# EAGLE library part EC20CEFASG-MINIPCIE (library my-Quectel)
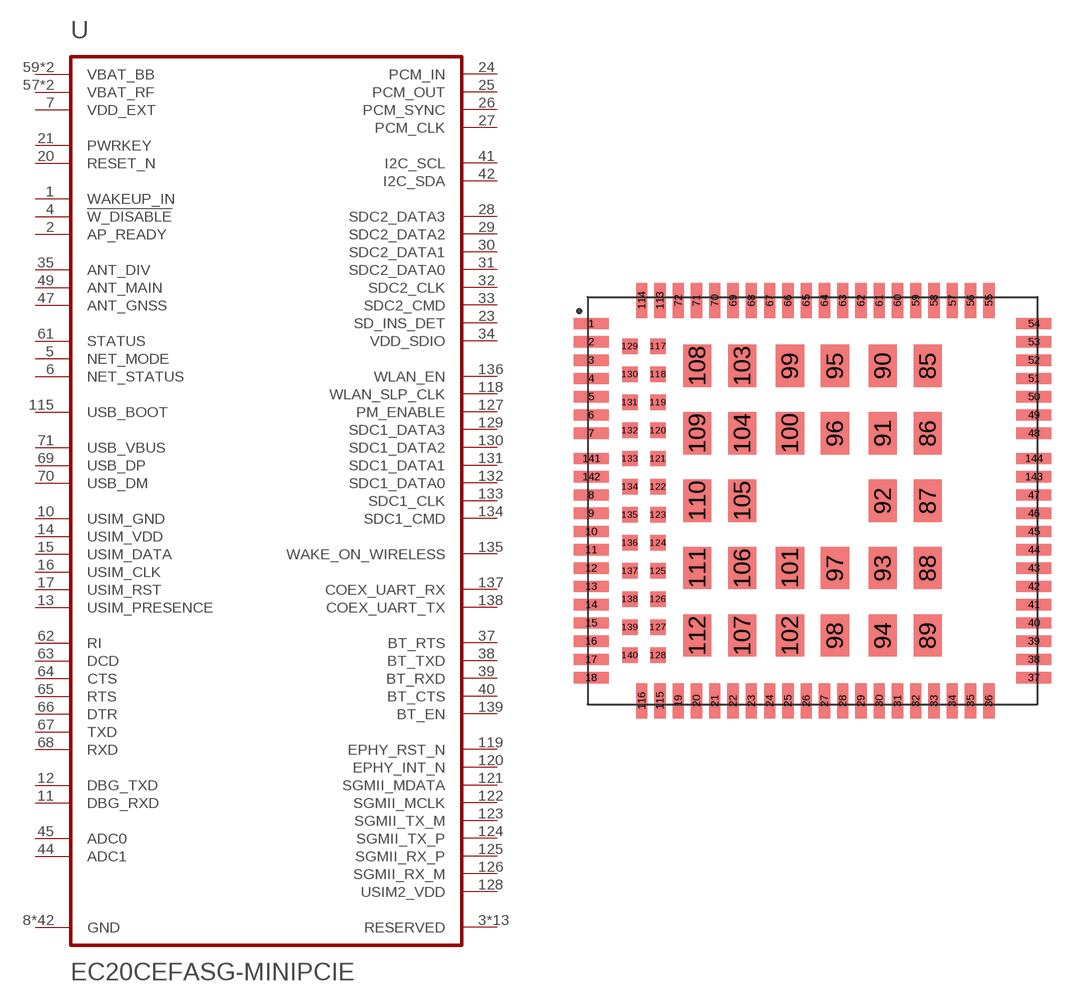
[diagram p0: symbol with the pads of EC21; footprint EC21]

Designator prefix -

## EC20CEFASG-MINIPCIE  [EC21]
1  WAKEUP_IN
2  AP_READY
3  RESERVED
4  !W_DISABLE
5  NET_MODE
6  NET_STATUS
7  VDD_EXT
8  GND
9  GND
10  USIM_GND
11  DBG_RXD
12  DBG_TXD
13  USIM_PRESENCE
14  USIM_VDD
15  USIM_DATA
16  USIM_CLK
17  USIM_RST
18  RESERVED
19  GND
20  RESET_N
21  PWRKEY
22  GND
23  SD_INS_DET
24  PCM_IN
25  PCM_OUT
26  PCM_SYNC
27  PCM_CLK
28  SDC2_DATA3
29  SDC2_DATA2
30  SDC2_DATA1
31  SDC2_DATA0
32  SDC2_CLK
33  SDC2_CMD
34  VDD_SDIO
35  ANT_DIV
36  GND
37  BT_RTS
38  BT_TXD
39  BT_RXD
40  BT_CTS
41  I2C_SCL
42  I2C_SDA
43  RESERVED
44  ADC1
45  ADC0
46  GND
47  ANT_GNSS
48  GND
49  ANT_MAIN
50  GND
51  GND
52  GND
53  GND
54  GND
55  RESERVED
56  GND
57  VBAT_RF
58  VBAT_RF
59  VBAT_BB
60  VBAT_BB
61  STATUS
62  RI
63  DCD
64  CTS
65  RTS
66  DTR
67  TXD
68  RXD
69  USB_DP
70  USB_DM
71  USB_VBUS
72  GND
85  GND
86  GND
87  GND
88  GND
89  GND
90  GND
91  GND
92  GND
93  GND
94  GND
95  GND
96  GND
97  GND
98  GND
99  GND
100  GND
101  GND
102  GND
103  GND
104  GND
105  GND
106  GND
107  GND
108  GND
109  GND
110  GND
111  GND
112  GND
113  RESERVED
114  RESERVED
115  USB_BOOT
116  RESERVED
117  RESERVED
118  WLAN_SLP_CLK
119  EPHY_RST_N
120  EPHY_INT_N
121  SGMII_MDATA
122  SGMII_MCLK
123  SGMII_TX_M
124  SGMII_TX_P
125  SGMII_RX_P
126  SGMII_RX_M
127  PM_ENABLE
128  USIM2_VDD
129  SDC1_DATA3
130  SDC1_DATA2
131  SDC1_DATA1
132  SDC1_DATA0
133  SDC1_CLK
134  SDC1_CMD
135  WAKE_ON_WIRELESS
136  WLAN_EN
137  COEX_UART_RX
138  COEX_UART_TX
139  BT_EN
140  RESERVED
141  RESERVED
142  RESERVED
143  RESERVED
144  RESERVED

## Footprint EC21 (pad centres in mm)
smd 2.5 x 0.8: 1 -15.75,12.6; 2 -15.75,11.3; 3 -15.75,10; 4 -15.75,8.7; 5 -15.75,7.4; 6 -15.75,6.1; 7 -15.75,4.8; 8 -15.75,0.4; 9 -15.75,-0.9; 10 -15.75,-2.2; 11 -15.75,-3.5; 12 -15.75,-4.8; 13 -15.75,-6.1; 14 -15.75,-7.4; 15 -15.75,-8.7; 16 -15.75,-10; 17 -15.75,-11.3; 18 -15.75,-12.6; 37 15.75,-12.6; 38 15.75,-11.3; 39 15.75,-10; 40 15.75,-8.7; 41 15.75,-7.4; 42 15.75,-6.1; 43 15.75,-4.8; 44 15.75,-3.5; 45 15.75,-2.2; 46 15.75,-0.9; 47 15.75,0.4; 48 15.75,4.8; 49 15.75,6.1; 50 15.75,7.4; 51 15.75,8.7; 52 15.75,10; 53 15.75,11.3; 54 15.75,12.6; 141 -15.75,3; 142 -15.75,1.7; 143 15.75,1.7; 144 15.75,3
smd 0.8 x 2.5: 19 -9.55,-14.25; 20 -8.25,-14.25; 21 -6.95,-14.25; 22 -5.65,-14.25; 23 -4.35,-14.25; 24 -3.05,-14.25; 25 -1.75,-14.25; 26 -0.45,-14.25; 27 0.85,-14.25; 28 2.15,-14.25; 29 3.45,-14.25; 30 4.75,-14.25; 31 6.05,-14.25; 32 7.35,-14.25; 33 8.65,-14.25; 34 9.95,-14.25; 35 11.25,-14.25; 36 12.55,-14.25; 55 12.55,14.25; 56 11.25,14.25; 57 9.95,14.25; 58 8.65,14.25; 59 7.35,14.25; 60 6.05,14.25; 61 4.75,14.25; 62 3.45,14.25; 63 2.15,14.25; 64 0.85,14.25; 65 -0.45,14.25; 66 -1.75,14.25; 67 -3.05,14.25; 68 -4.35,14.25; 69 -5.65,14.25; 70 -6.95,14.25; 71 -8.25,14.25; 72 -9.55,14.25; 113 -10.85,14.25; 114 -12.15,14.25; 115 -10.85,-14.25; 116 -12.15,-14.25
smd 2 x 3: 85 8.2,9.6; 86 8.2,4.8; 87 8.2,0; 88 8.2,-4.8; 89 8.2,-9.6; 90 5,9.6; 91 5,4.8; 92 5,0; 93 5,-4.8; 94 5,-9.6; 95 1.6,9.6; 96 1.6,4.8; 97 1.6,-4.8; 98 1.6,-9.6; 99 -1.6,9.6; 100 -1.6,4.8; 101 -1.6,-4.8; 102 -1.6,-9.6; 103 -5,9.6; 104 -5,4.8; 105 -5,0; 106 -5,-4.8; 107 -5,-9.6; 108 -8.2,9.6; 109 -8.2,4.8; 110 -8.2,0; 111 -8.2,-4.8; 112 -8.2,-9.6
smd 1.1 x 1.1: 117 -11,11; 118 -11,9; 119 -11,7; 120 -11,5; 121 -11,3; 122 -11,1; 123 -11,-1; 124 -11,-3; 125 -11,-5; 126 -11,-7; 127 -11,-9; 128 -11,-11; 129 -13,11; 130 -13,9; 131 -13,7; 132 -13,5; 133 -13,3; 134 -13,1; 135 -13,-1; 136 -13,-3; 137 -13,-5; 138 -13,-7; 139 -13,-9; 140 -13,-11